# Altium footprint library WS485H-V5_RS.PcbLib: 34 footprints (part 1 of 3)
Each footprint in its own frame and in the unit in brackets; x right, y up, seen from the top. Pads: shape width x height; smd on the part's side, far side on the other; paste and mask are expansions set on the pad; w line width, h text height; cw(c..) or ccw(c..) is an arc to the next point about the centre after c.
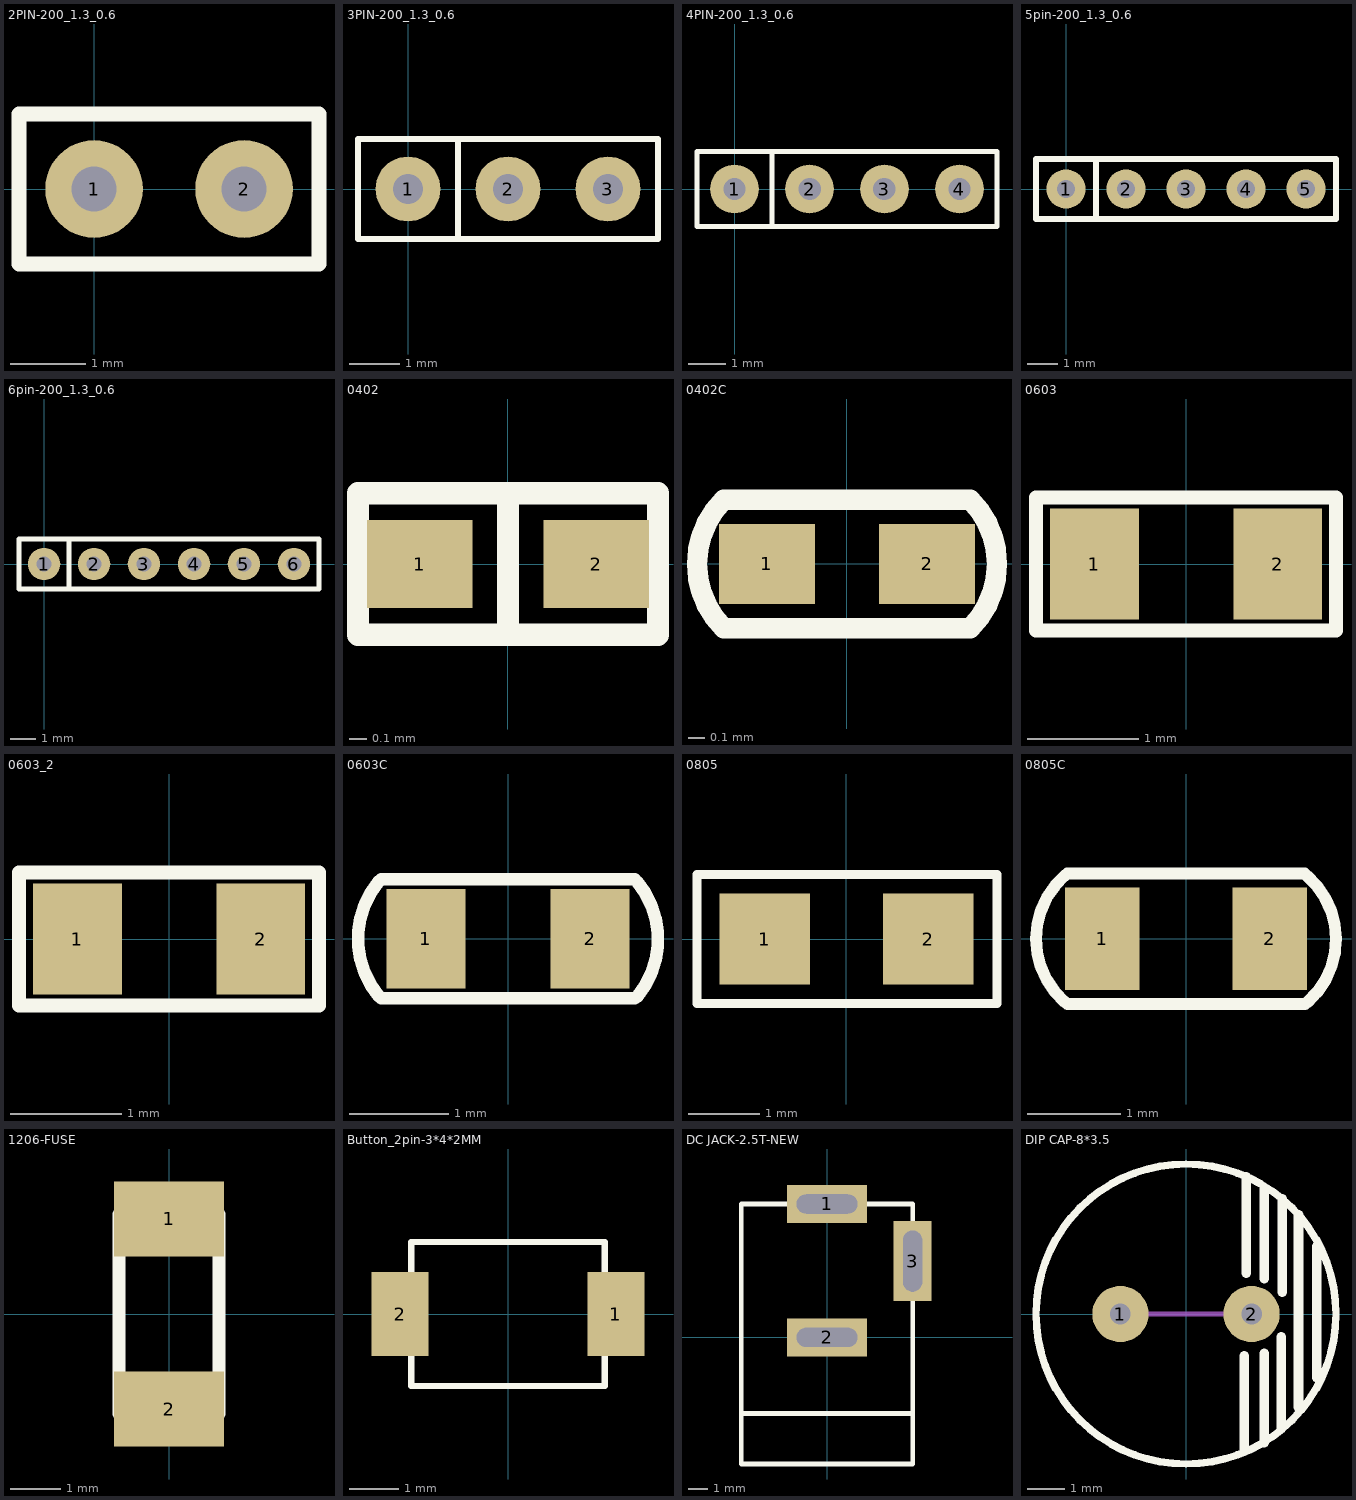
[diagram p0: the footprints below, top view; thin cyan lines are the x and y axes]

## 2PIN-200_1.3_0.6 [mm]
pads (2):
  round 1.3 hole 0.6: 1(0,0) 2(2,0)
Top Overlay:
  lines w0.2: -1,-1 3,-1 3,1 -1,1 -1,-1
3D body "User Library-PBS2-2.STEP": height 7.45, standoff 0, extent -1,-1 3,1

## 3PIN-200_1.3_0.6 [mm]
pads (3):
  round 1.3 hole 0.6: 1(0,0) 2(2,0) 3(4,0)
Top Overlay:
  lines w0.127: 1,-1 1,1 ; -1,-1 -1,1 5,1 5,-1 -1,-1
3D body "User Library-PBS2-3.STEP": height 7.45, standoff 0, extent -1,-1 5,1

## 4PIN-200_1.3_0.6 [mm]
pads (4):
  round 1.3 hole 0.6: 1(0,0) 2(2,0) 3(4,0) 4(6,0)
Top Overlay:
  lines w0.127: 1,-1 1,1 ; -1,-1 -1,1 7,1 7,-1 -1,-1
3D body "User Library-PBS2-2.STEP": height 7.45, standoff 0, extent 3,-1 7,1
3D body "User Library-PBS2-2.STEP": height 7.45, standoff 0, extent -1,-1 3,1

## 5pin-200_1.3_0.6 [mm]
pads (5):
  round 1.3 hole 0.6: 1(0,0) 2(2,0) 3(4,0) 4(6,0) 5(8,0)
Top Overlay:
  lines w0.2: 1,-1 1,0.975 ; -1,-1 -1,1 9,1 9,-1 -1,-1
3D body "User Library-PBS2-5.STEP": height 7.45, standoff 0, extent -1,-1 9,1

## 6pin-200_1.3_0.6 [mm]
pads (6):
  round 1.3 hole 0.6: 1(0,0) 2(2,0) 3(4,0) 4(6,0) 5(8,0) 6(10,0)
Top Overlay:
  lines w0.2: 1,-1 1,0.975 ; -1,-1 11,-1 11,1 -1,1 -1,-1
3D body "User Library-PBS2-3.STEP": height 7.45, standoff 0, extent 5,-1 11,1
3D body "User Library-PBS2-3.STEP": height 7.45, standoff 0, extent -1,-1 5,1

## 0402 [mm]
pads (2):
  rect 0.6x0.5 smd: 1(-0.5,0) 2(0.5,0)
Top Overlay:
  lines w0.127: 0,-0.4 0,0.4 ; -0.85,-0.4 0.85,-0.4 0.85,0.4 -0.85,0.4 -0.85,-0.4
3D body "User Library-d0402h025.STEP": height 0.25, standoff 0, extent -0.5,-0.25 0.5,0.25

## 0402C [mm]
pads (2):
  rect 0.6x0.5 smd: 1(-0.5,0) 2(0.5,0)
Top Overlay:
  lines w0.127: -0.77,-0.4 cw(c-0.37,0) -0.77,0.4 0.77,0.4 cw(c0.37,0) 0.77,-0.4 -0.77,-0.4
3D body: height 0.25, standoff 0, extent -0.525,-0.275 0.525,0.275

## 0603 [mm]
pads (2):
  rect 0.8x1 smd: 1(-0.826,0) 2(0.826,0)
Top Overlay:
  lines w0.127: -1.351,-0.6 1.349,-0.6 1.349,0.6 -1.351,0.6 -1.351,-0.6
3D body "79750.stp": height 0.45, standoff 0, extent -0.8,-0.4 0.8,0.4

## 0603_2 [mm]
pads (2):
  rect 0.8x1 smd: 1(-0.826,0) 2(0.826,0)
Top Overlay:
  lines w0.127: -1.351,-0.6 1.349,-0.6 1.349,0.6 -1.351,0.6 -1.351,-0.6
3D body "79750.stp": height 0.45, standoff 0, extent -0.8,-0.4 0.8,0.4

## 0603C [mm]
pads (2):
  rect 0.8x1 smd: 1(-0.826,0) 2(0.826,0)
Top Overlay:
  lines w0.127: -1.299,-0.579 cw(c-0.61,0) -1.299,0.579 ; -1.275,0.6 1.274,0.6 ; -1.273,-0.599 1.276,-0.599 ; 1.299,-0.582 ccw(c0.61,-0.004) 1.299,0.575
3D body "cbr06c470jagac.stp": height 0.9, standoff 0, extent -0.85,-0.435 0.85,0.435

## 0805 [mil]
pads (2):
  rect 50x50 smd: 1(-45,0) 2(45,0)
Top Overlay:
  lines w5: -82.4,-35.43 82.95,-35.43 82.95,35.43 -82.4,35.43 -82.4,-35.43
3D body "CircuitWorks-RESISTOR 0805.STEP": height 16.93, standoff -1.18, extent -39.09,-24.8 39.65,24.8

## 0805C [mm] "0805C"
pads (2):
  rect 0.8x1.1 smd: 1(-0.9,0) 2(0.9,0)
Top Overlay:
  lines w0.127: -1.3,0.679 ccw(c-0.71,0) -1.3,-0.68 ; -1.275,0.7 1.274,0.7 ; -1.273,-0.699 1.276,-0.699 ; 1.298,0.677 cw(c0.71,-0.004) 1.304,-0.68
3D body "c0805c479c2gactu.stp": height 0.92, standoff 0.04, extent -1.1,-0.725 1.1,0.725

## 1206-FUSE [mm] "1206-FUSE"
pads (2):
  rect 2.2x1.5 smd: 1(0,1.905) 2(0,-1.905)
Top Overlay:
  lines w0.254: -1,-2 1,-2 1,2 -1,2 -1,-2
3D body "User Library-SF-1206F.STEP": height 0.61, standoff 0, extent -0.775,-1.55 0.775,1.55

## Button_2pin-3*4*2MM [mm] "Button_2pin-3*4*2MM"
pads (2):
  rect 1.15x1.7 smd: 1(2.175,0) 2(-2.175,0)
Top Overlay:
  lines w0.127: -1.95,-1.45 -1.95,1.45 1.95,1.45 1.95,-1.45 -1.95,-1.45
3D body "User Library-Pushbutton3x4x2.STEP": height 2, standoff 0, extent -2.45,-1.45 2.45,1.45

## DC JACK-2.5T-NEW [mm] "DC JACK-2.5T-NEW"
pads (3):
  rect 4.2x2 hole 1 slot 3.2 at 0 deg: 1(0,7) 2(0,0)
  rect 2x4.2 hole 1 slot 3.2 at 90 deg: 3(4.498,4.001)
Top Overlay:
  lines w0.254: -4.5,-4 4.5,-4 ; -4.5,-6.65 4.5,-6.65 4.5,7 -4.5,7 -4.5,-6.65
3D body "User Library-DC_JACK_10A.STEP": height 11.1, standoff -3.4, extent -4.8,-6.875 4.8,7.225

## DIP CAP-8*3.5 [mm]
pads (2):
  round 1.5 hole 0.55: 1(-1.75,0) 2(1.75,0)
Top Overlay:
  circle w0.2: c0,0 r4
  lines w0.254: 1.552,-3.658 1.552,-1.118 ; 1.603,1.092 1.603,3.658 ; 2.085,-3.429 2.085,-1.041 ; 2.085,0.94 2.085,3.327 ; 2.543,-3.048 2.543,-0.61 ; 2.568,0.584 2.568,3.073 ; 3,-2.489 3,2.642 ; 3.482,-1.702 3.482,1.803
Mechanical 1:
  lines w0.127: -1.75,0 1.75,0
3D body "User Library-ECAP6_3_7_25.STEP": height 7, standoff -2.3, extent -3.149,-3.15 3.149,3.15